# Altium integrated library TI Power Management Step-Down Regulator.IntLib: 531 symbols (part 2 of 32)
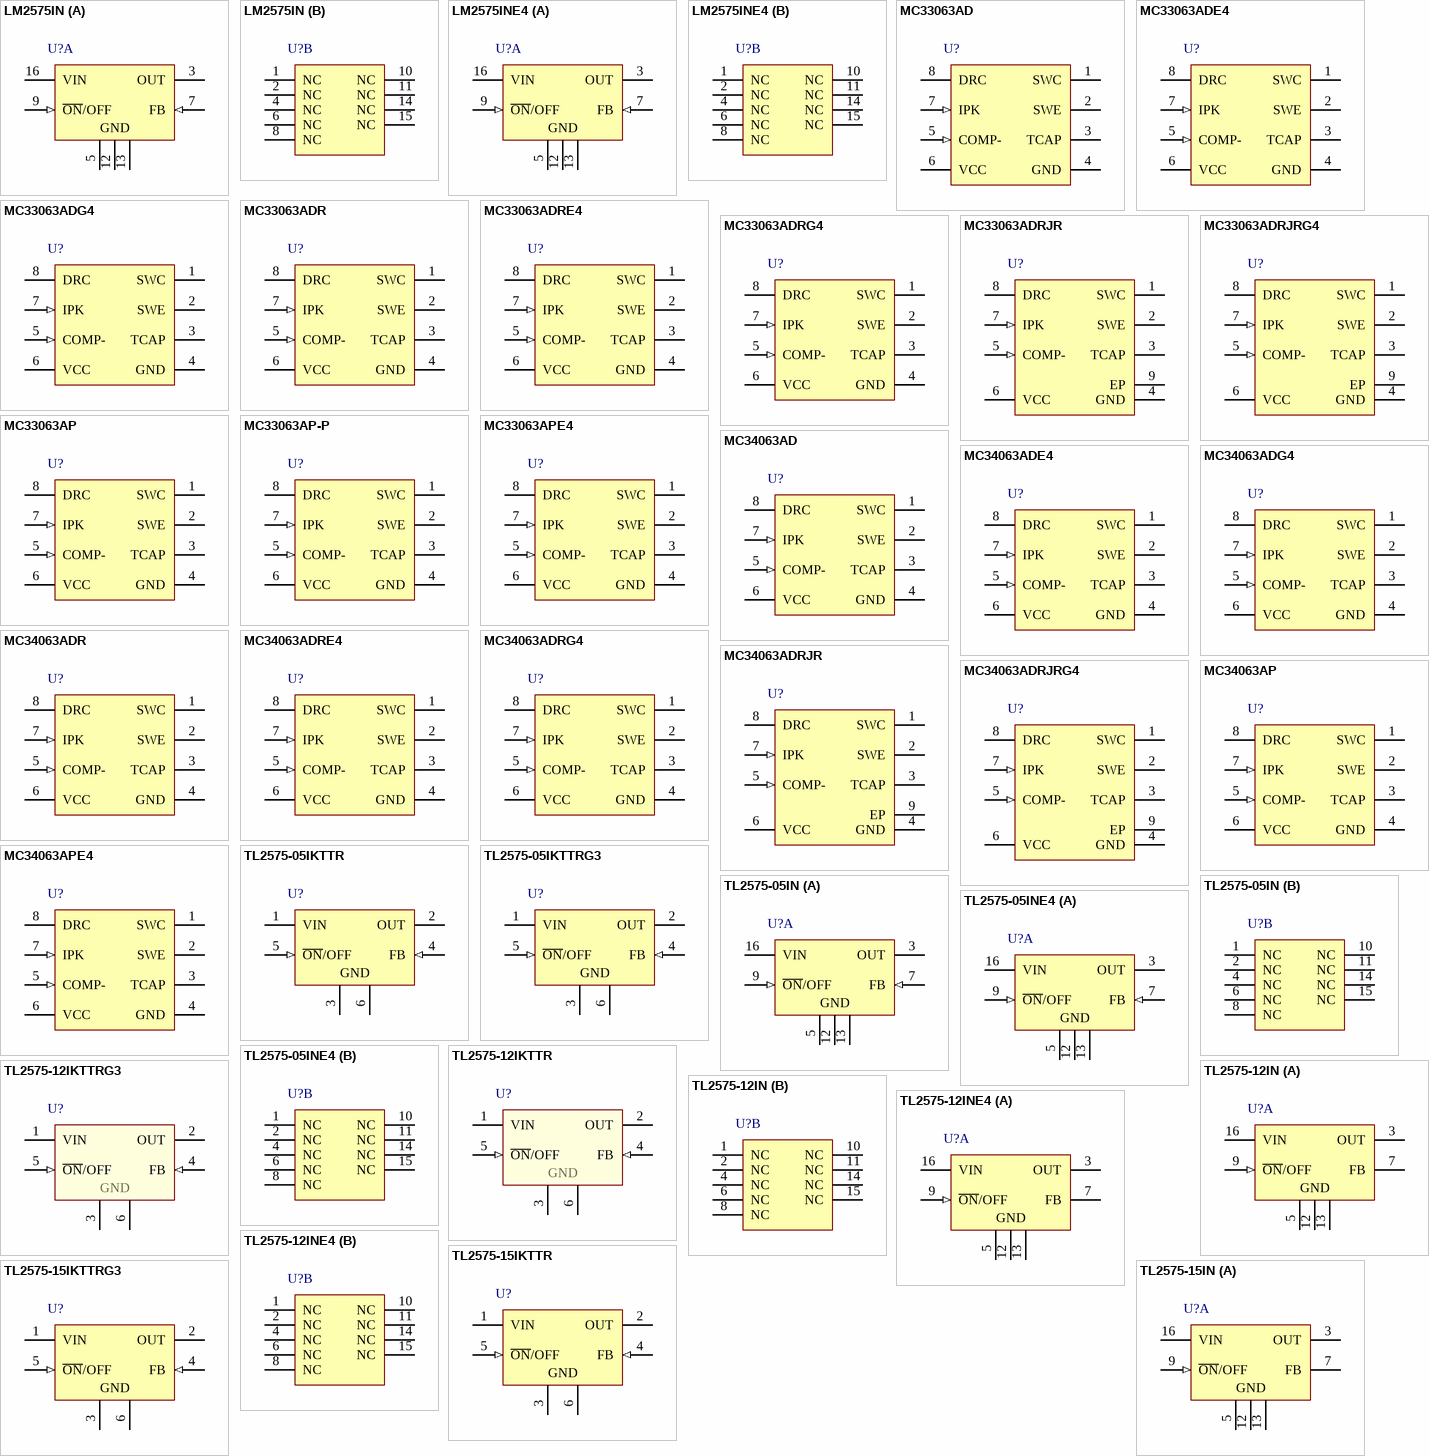
[diagram p19: symbols LM2575IN to TL2575-15IN]

## TL2575-15IKTTRG3
designator U?
Buck Step Down Regulator with 4.75 to 40 V Input and 15 V Output, -40 to 125 degC, 5-Pin DDPAK/TO-263 (KTT), Green (RoHS & no Sb/Br); PartNumber: TL2575-15IKTTRG3; Manufacturer: Texas Instruments; Duty Cycle(Max)(%): 98; Iout(Max)(A): 1; Iq(Typ)(mA): 5; Preset Vout(V): 15; Rating: Catalog; SubFamily: Step-Down Regulator; Switch Current Limit(Typ)(A): 2.8; Vin(Max)(V): 40; Vin(Min)(V): 4.75; DatasheetVersion: SLVS638B; PackageVersion: revF, Jul-2011; PackageReference: KTT5; PackageDescription: 6-Pin Plastic Flange-Mount Package 1.7 mm Pitch, 15.2 mm Lead Span; Supplier 1: Digi-Key; Supplier Part Number 1: TL2575-15IKTTRG3-ND; Supplier 2: Newark; Supplier Part Number 2: 62M0605; Supplier 3: Mouser; Supplier Part Number 3: 595-TL2575-15IKTTRG3; Eco-Plan: Green (RoHS & no Sb/Br); Regulated Outputs(#): 1; Topology: Buck; Vout(Max)(V): 15; Vout(Min)(V): 15; Mounting Technology: Surface Mount; Code_JEDEC: TO-263-AB; ComponentLink1Description: Datasheet; ComponentLink1URL: http://www.ti.com/general/docs/lit/getliterature.tsp?genericPartNumber=TL2575-15&fileType=pdf; ComponentLink2Description: URL Link1; ComponentLink2URL: Samples URL:http://www.ti.com/product/tl2575-15#samples
footprint KTT5_N (D2-PAK, 6-Leads, Body 8.9x10.2mm, Pitch 1.7mm, Lead Span 15.2mm, IPC Medium Density)
footprint KTT5_L (D2-PAK, 6-Leads, Body 8.9x10.2mm, Pitch 1.7mm, Lead Span 15.2mm, IPC High Density)
footprint KTT5_M (D2-PAK, 6-Leads, Body 8.9x10.2mm, Pitch 1.7mm, Lead Span 15.2mm, IPC Low Density)
pins: 1 VIN (power), 2 OUT (power), 3 GND (power), 4 FB (in), 5 ~{ON}/OFF (in), 6 GND (power)

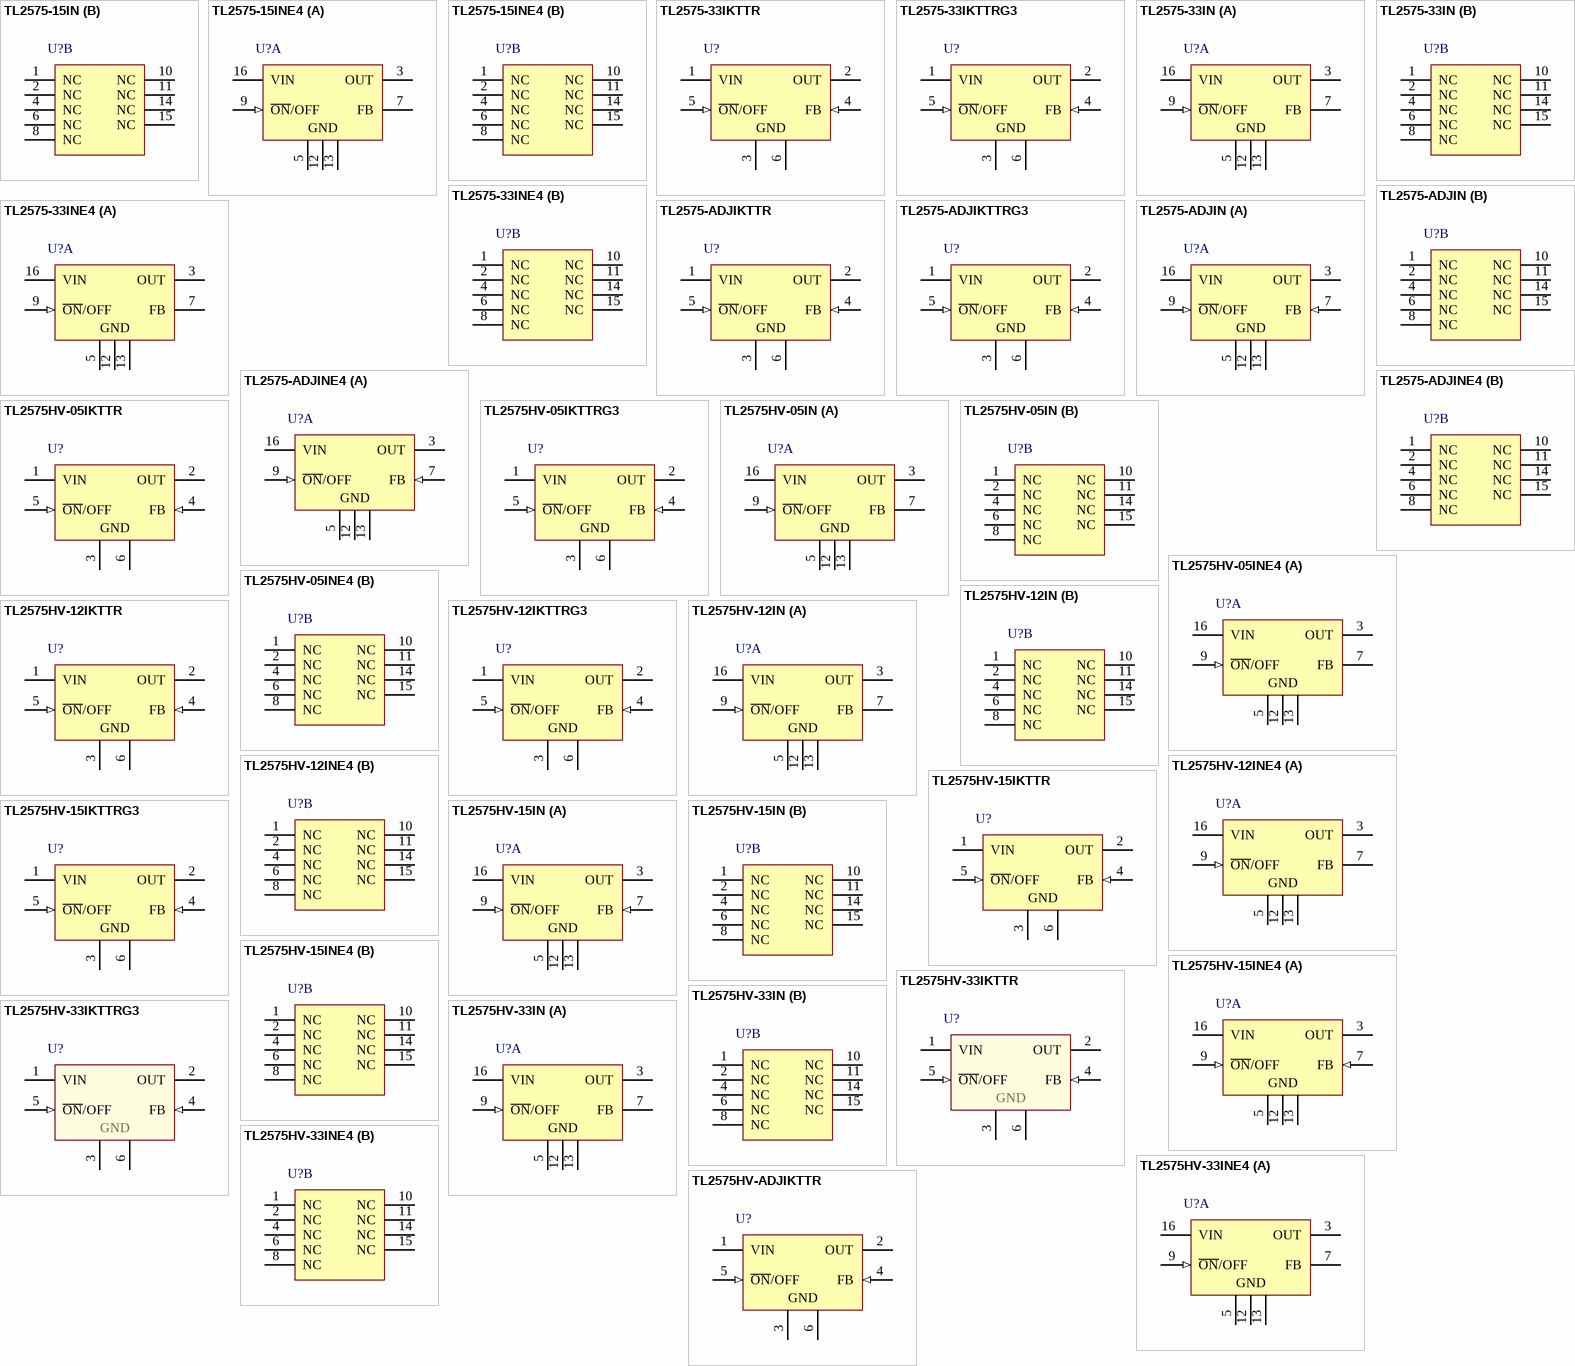
[diagram p1: symbols TL2575-15IN to TL2575HV-ADJIKTTR]

## TL2575-15IN
designator U?
Buck Step Down Regulator with 4.75 to 40 V Input and 15 V Output, -40 to 125 degC, 16-Pin PDIP (N), Pb-Free (RoHS); PartNumber: TL2575-15IN; Manufacturer: Texas Instruments; Duty Cycle(Max)(%): 98; Iout(Max)(A): 1; Iq(Typ)(mA): 5; Preset Vout(V): 15; Rating: Catalog; SubFamily: Step-Down Regulator; Switch Current Limit(Typ)(A): 2.8; Vin(Max)(V): 40; Vin(Min)(V): 4.75; DatasheetVersion: SLVS638B; PackageVersion: revE, Dec-2002; PackageReference: N16; PackageDescription: 16-Pin Plastic Dual-In-Line Package, Row Spacing 7.62 mm, Pitch 2.54 mm; Supplier 1: Digi-Key; Supplier Part Number 1: 296-21827-5-ND; Supplier 2: Newark; Supplier Part Number 2: 10M0607; Supplier 3: Mouser; Supplier Part Number 3: 595-TL2575-15IN; Eco-Plan: Pb-Free (RoHS); Regulated Outputs(#): 1; Topology: Buck; Vout(Max)(V): 15; Vout(Min)(V): 15; Mounting Technology: Through Hole; Code_JEDEC: MS-001*; ComponentLink1Description: Datasheet; ComponentLink1URL: http://www.ti.com/general/docs/lit/getliterature.tsp?genericPartNumber=TL2575-15&fileType=pdf; ComponentLink2Description: URL Link1; ComponentLink2URL: Samples URL:http://www.ti.com/product/tl2575-15#samples
footprint N16 (DIP, 16-Leads, Row Spacing 7.62mm, Pitch 2.54mm, Body 19.3x6.4mm)
part A pins: 3 OUT (power), 5 GND (power), 7 FB, 9 ~{ON}/OFF (in), 12 GND (power), 13 GND (power), 16 VIN (power)
part B pins: 1 NC, 2 NC, 4 NC, 6 NC, 8 NC, 10 NC, 11 NC, 14 NC, 15 NC

## TL2575-15INE4
designator U?
Buck Step Down Regulator with 4.75 to 40 V Input and 15 V Output, -40 to 125 degC, 16-Pin PDIP (N), Pb-Free (RoHS); PartNumber: TL2575-15INE4; Manufacturer: Texas Instruments; Duty Cycle(Max)(%): 98; Iout(Max)(A): 1; Iq(Typ)(mA): 5; Preset Vout(V): 15; Rating: Catalog; SubFamily: Step-Down Regulator; Switch Current Limit(Typ)(A): 2.8; Vin(Max)(V): 40; Vin(Min)(V): 4.75; DatasheetVersion: SLVS638B; PackageVersion: revE, Dec-2002; PackageReference: N16; PackageDescription: 16-Pin Plastic Dual-In-Line Package, Row Spacing 7.62 mm, Pitch 2.54 mm; Supplier 1: Digi-Key; Supplier Part Number 1: TL2575-15INE4-ND; Supplier 2: Newark; Supplier Part Number 2: 14M2354; Supplier 3: Mouser; Supplier Part Number 3: 595-TL2575-15INE4; Eco-Plan: Pb-Free (RoHS); Regulated Outputs(#): 1; Topology: Buck; Vout(Max)(V): 15; Vout(Min)(V): 15; Mounting Technology: Through Hole; Code_JEDEC: MS-001*; ComponentLink1Description: Datasheet; ComponentLink1URL: http://www.ti.com/general/docs/lit/getliterature.tsp?genericPartNumber=TL2575-15&fileType=pdf; ComponentLink2Description: URL Link1; ComponentLink2URL: Samples URL:http://www.ti.com/product/tps54611#samples
footprint N16 (DIP, 16-Leads, Row Spacing 7.62mm, Pitch 2.54mm, Body 19.3x6.4mm)
part A pins: 3 OUT (power), 5 GND (power), 7 FB, 9 ~{ON}/OFF (in), 12 GND (power), 13 GND (power), 16 VIN (power)
part B pins: 1 NC, 2 NC, 4 NC, 6 NC, 8 NC, 10 NC, 11 NC, 14 NC, 15 NC

## TL2575-33IKTTR
designator U?
Buck Step Down Regulator with 4.75 to 40 V Input and 3.3 V Output, -40 to 125 degC, 5-Pin DDPAK/TO-263 (KTT), Green (RoHS & no Sb/Br); PartNumber: TL2575-33IKTTR; Manufacturer: Texas Instruments; Duty Cycle(Max)(%): 98; Iout(Max)(A): 1; Iq(Typ)(mA): 5; Preset Vout(V): 3.3; Rating: Catalog; SubFamily: Step-Down Regulator; Switch Current Limit(Typ)(A): 2.8; Vin(Max)(V): 40; Vin(Min)(V): 4.75; DatasheetVersion: SLVS638B; PackageVersion: revF, Jul-2011; PackageReference: KTT5; PackageDescription: 6-Pin Plastic Flange-Mount Package 1.7 mm Pitch, 15.2 mm Lead Span; Supplier 1: Digi-Key; Supplier Part Number 1: 296-21828-2-ND; Supplier 2: Digi-Key; Supplier Part Number 2: 296-21828-1-ND; Supplier 3: Digi-Key; Supplier Part Number 3: 296-21828-6-ND; Supplier 4: Farnell; Supplier Part Number 4: 1755280RL; Supplier 5: Farnell; Supplier Part Number 5: 1755280; Supplier 6: Newark; Supplier Part Number 6: 27M1032; Supplier 7: Mouser; Supplier Part Number 7: 595-TL2575-33IKTTR; Eco-Plan: Green (RoHS & no Sb/Br); Regulated Outputs(#): 1; Topology: Buck; Vout(Max)(V): 3.3; Vout(Min)(V): 3.3; Mounting Technology: Surface Mount; Code_JEDEC: TO-263-AB; ComponentLink1Description: Datasheet; ComponentLink1URL: http://www.ti.com/general/docs/lit/getliterature.tsp?genericPartNumber=TL2575-33&fileType=pdf; ComponentLink2Description: URL Link1; ComponentLink2URL: Samples URL:http://www.ti.com/product/tl2575-33#samples
footprint KTT5_N (D2-PAK, 6-Leads, Body 8.9x10.2mm, Pitch 1.7mm, Lead Span 15.2mm, IPC Medium Density)
footprint KTT5_L (D2-PAK, 6-Leads, Body 8.9x10.2mm, Pitch 1.7mm, Lead Span 15.2mm, IPC High Density)
footprint KTT5_M (D2-PAK, 6-Leads, Body 8.9x10.2mm, Pitch 1.7mm, Lead Span 15.2mm, IPC Low Density)
pins: 1 VIN (power), 2 OUT (power), 3 GND (power), 4 FB (in), 5 ~{ON}/OFF (in), 6 GND (power)

## TL2575-33IKTTRG3
designator U?
Buck Step Down Regulator with 4.75 to 40 V Input and 3.3 V Output, -40 to 125 degC, 5-Pin DDPAK/TO-263 (KTT), Green (RoHS & no Sb/Br); PartNumber: TL2575-33IKTTRG3; Manufacturer: Texas Instruments; Duty Cycle(Max)(%): 98; Iout(Max)(A): 1; Iq(Typ)(mA): 5; Preset Vout(V): 3.3; Rating: Catalog; SubFamily: Step-Down Regulator; Switch Current Limit(Typ)(A): 2.8; Vin(Max)(V): 40; Vin(Min)(V): 4.75; DatasheetVersion: SLVS638B; PackageVersion: revF, Jul-2011; PackageReference: KTT5; PackageDescription: 6-Pin Plastic Flange-Mount Package 1.7 mm Pitch, 15.2 mm Lead Span; Supplier 1: Digi-Key; Supplier Part Number 1: TL2575-33IKTTRG3-ND; Supplier 2: Newark; Supplier Part Number 2: 62M0606; Supplier 3: Mouser; Supplier Part Number 3: 595-TL2575-33IKTTRG3; Eco-Plan: Green (RoHS & no Sb/Br); Regulated Outputs(#): 1; Topology: Buck; Vout(Max)(V): 3.3; Vout(Min)(V): 3.3; Mounting Technology: Surface Mount; Code_JEDEC: TO-263-AB; ComponentLink1Description: Datasheet; ComponentLink1URL: http://www.ti.com/general/docs/lit/getliterature.tsp?genericPartNumber=TL2575-33&fileType=pdf; ComponentLink2Description: URL Link1; ComponentLink2URL: Samples URL:http://www.ti.com/product/tl2575-33#samples
footprint KTT5_N (D2-PAK, 6-Leads, Body 8.9x10.2mm, Pitch 1.7mm, Lead Span 15.2mm, IPC Medium Density)
footprint KTT5_L (D2-PAK, 6-Leads, Body 8.9x10.2mm, Pitch 1.7mm, Lead Span 15.2mm, IPC High Density)
footprint KTT5_M (D2-PAK, 6-Leads, Body 8.9x10.2mm, Pitch 1.7mm, Lead Span 15.2mm, IPC Low Density)
pins: 1 VIN (power), 2 OUT (power), 3 GND (power), 4 FB (in), 5 ~{ON}/OFF (in), 6 GND (power)

## TL2575-33IN
designator U?
Buck Step Down Regulator with 4.75 to 40 V Input and 3.3 V Output, -40 to 125 degC, 16-Pin PDIP (N), Pb-Free (RoHS); PartNumber: TL2575-33IN; Manufacturer: Texas Instruments; Duty Cycle(Max)(%): 98; Iout(Max)(A): 1; Iq(Typ)(mA): 5; Preset Vout(V): 3.3; Rating: Catalog; SubFamily: Step-Down Regulator; Switch Current Limit(Typ)(A): 2.8; Vin(Max)(V): 40; Vin(Min)(V): 4.75; DatasheetVersion: SLVS638B; PackageVersion: revE, Dec-2002; PackageReference: N16; PackageDescription: 16-Pin Plastic Dual-In-Line Package, Row Spacing 7.62 mm, Pitch 2.54 mm; Supplier 1: Digi-Key; Supplier Part Number 1: 296-21095-5-ND; Supplier 2: Newark; Supplier Part Number 2: 75K1599; Supplier 3: Mouser; Supplier Part Number 3: 595-TL2575-33IN; Eco-Plan: Pb-Free (RoHS); Regulated Outputs(#): 1; Topology: Buck; Vout(Max)(V): 3.3; Vout(Min)(V): 3.3; Mounting Technology: Through Hole; Code_JEDEC: MS-001*; ComponentLink1Description: Datasheet; ComponentLink1URL: http://www.ti.com/general/docs/lit/getliterature.tsp?genericPartNumber=TL2575-33&fileType=pdf; ComponentLink2Description: URL Link1; ComponentLink2URL: Samples URL:http://www.ti.com/product/tl2575-33#samples
footprint N16 (DIP, 16-Leads, Row Spacing 7.62mm, Pitch 2.54mm, Body 19.3x6.4mm)
part A pins: 3 OUT (power), 5 GND (power), 7 FB, 9 ~{ON}/OFF (in), 12 GND (power), 13 GND (power), 16 VIN (power)
part B pins: 1 NC, 2 NC, 4 NC, 6 NC, 8 NC, 10 NC, 11 NC, 14 NC, 15 NC

## TL2575-33INE4
designator U?
Buck Step Down Regulator with 4.75 to 40 V Input and 3.3 V Output, -40 to 125 degC, 16-Pin PDIP (N), Green (RoHS & no Sb/Br); PartNumber: TL2575-33INE4; Manufacturer: Texas Instruments; Duty Cycle(Max)(%): 98; Iout(Max)(A): 1; Iq(Typ)(mA): 5; Preset Vout(V): 3.3; Rating: Catalog; SubFamily: Step-Down Regulator; Switch Current Limit(Typ)(A): 2.8; Vin(Max)(V): 40; Vin(Min)(V): 4.75; DatasheetVersion: SLVS638B; PackageVersion: revE, Dec-2002; PackageReference: N16; PackageDescription: 16-Pin Plastic Dual-In-Line Package, Row Spacing 7.62 mm, Pitch 2.54 mm; Supplier 1: Digi-Key; Supplier Part Number 1: TL2575-33INE4-ND; Supplier 2: Newark; Supplier Part Number 2: 53M3980; Supplier 3: Mouser; Supplier Part Number 3: 595-TL2575-33INE4; Eco-Plan: Green (RoHS & no Sb/Br); Regulated Outputs(#): 1; Topology: Buck; Vout(Max)(V): 3.3; Vout(Min)(V): 3.3; Mounting Technology: Through Hole; Code_JEDEC: MS-001*; ComponentLink1Description: Datasheet; ComponentLink1URL: http://www.ti.com/general/docs/lit/getliterature.tsp?genericPartNumber=TL2575-33&fileType=pdf; ComponentLink2Description: URL Link1; ComponentLink2URL: Samples URL:http://www.ti.com/product/tps54611#samples
footprint N16 (DIP, 16-Leads, Row Spacing 7.62mm, Pitch 2.54mm, Body 19.3x6.4mm)
part A pins: 3 OUT (power), 5 GND (power), 7 FB, 9 ~{ON}/OFF (in), 12 GND (power), 13 GND (power), 16 VIN (power)
part B pins: 1 NC, 2 NC, 4 NC, 6 NC, 8 NC, 10 NC, 11 NC, 14 NC, 15 NC

## TL2575-ADJIKTTR
designator U?
Buck Step Down Regulator with 4.75 to 40 V Input and 1.23 to 37 V Output, -40 to 125 degC, 5-Pin DDPAK/TO-263 (KTT), Green (RoHS & no Sb/Br); PartNumber: TL2575-ADJIKTTR; Manufacturer: Texas Instruments; Duty Cycle(Max)(%): 98; Iout(Max)(A): 1; Iq(Typ)(mA): 5; Rating: Catalog; SubFamily: Step-Down Regulator; Switch Current Limit(Typ)(A): 2.8; Vin(Max)(V): 40; Vin(Min)(V): 4.75; Vout(Max)(V): 37; Vout(Min)(V): 1.23; DatasheetVersion: SLVS638B; PackageVersion: revF, Jul-2011; PackageReference: KTT5; PackageDescription: 6-Pin Plastic Flange-Mount Package 1.7 mm Pitch, 15.2 mm Lead Span; Supplier 1: Digi-Key; Supplier Part Number 1: 296-21830-2-ND; Supplier 2: Digi-Key; Supplier Part Number 2: 296-21830-1-ND; Supplier 3: Digi-Key; Supplier Part Number 3: 296-21830-6-ND; Supplier 4: Farnell; Supplier Part Number 4: 1755268; Supplier 5: Farnell; Supplier Part Number 5: 1755268RL; Supplier 6: Newark; Supplier Part Number 6: 34R9113; Supplier 7: Mouser; Supplier Part Number 7: 595-TL2575-ADJIKTTR; Eco-Plan: Green (RoHS & no Sb/Br); Regulated Outputs(#): 1; Topology: Buck; Mounting Technology: Surface Mount; Code_JEDEC: TO-263-AB; ComponentLink1Description: Datasheet; ComponentLink1URL: http://www.ti.com/general/docs/lit/getliterature.tsp?genericPartNumber=TL2575-ADJ&fileType=pdf; ComponentLink2Description: URL Link1; ComponentLink2URL: Samples URL:http://www.ti.com/product/tl2575-adj#samples
footprint KTT5_N (D2-PAK, 6-Leads, Body 8.9x10.2mm, Pitch 1.7mm, Lead Span 15.2mm, IPC Medium Density)
footprint KTT5_L (D2-PAK, 6-Leads, Body 8.9x10.2mm, Pitch 1.7mm, Lead Span 15.2mm, IPC High Density)
footprint KTT5_M (D2-PAK, 6-Leads, Body 8.9x10.2mm, Pitch 1.7mm, Lead Span 15.2mm, IPC Low Density)
pins: 1 VIN (power), 2 OUT (power), 3 GND (power), 4 FB (in), 5 ~{ON}/OFF (in), 6 GND (power)

## TL2575-ADJIKTTRG3
designator U?
Buck Step Down Regulator with 4.75 to 40 V Input and 1.23 to 37 V Output, -40 to 125 degC, 5-Pin DDPAK/TO-263 (KTT), Green (RoHS & no Sb/Br); PartNumber: TL2575-ADJIKTTRG3; Manufacturer: Texas Instruments; Duty Cycle(Max)(%): 98; Iout(Max)(A): 1; Iq(Typ)(mA): 5; Rating: Catalog; SubFamily: Step-Down Regulator; Switch Current Limit(Typ)(A): 2.8; Vin(Max)(V): 40; Vin(Min)(V): 4.75; Vout(Max)(V): 37; Vout(Min)(V): 1.23; DatasheetVersion: SLVS638B; PackageVersion: revF, Jul-2011; PackageReference: KTT5; PackageDescription: 6-Pin Plastic Flange-Mount Package 1.7 mm Pitch, 15.2 mm Lead Span; Supplier 1: Digi-Key; Supplier Part Number 1: TL2575-ADJIKTTRG3-ND; Supplier 2: Mouser; Supplier Part Number 2: 595-TL2575ADJIKTTRG3; Eco-Plan: Green (RoHS & no Sb/Br); Regulated Outputs(#): 1; Topology: Buck; Mounting Technology: Surface Mount; Code_JEDEC: TO-263-AB; ComponentLink1Description: Datasheet; ComponentLink1URL: http://www.ti.com/general/docs/lit/getliterature.tsp?genericPartNumber=TL2575-ADJ&fileType=pdf; ComponentLink2Description: URL Link1; ComponentLink2URL: Samples URL:http://www.ti.com/product/tl2575-adj#samples
footprint KTT5_N (D2-PAK, 6-Leads, Body 8.9x10.2mm, Pitch 1.7mm, Lead Span 15.2mm, IPC Medium Density)
footprint KTT5_L (D2-PAK, 6-Leads, Body 8.9x10.2mm, Pitch 1.7mm, Lead Span 15.2mm, IPC High Density)
footprint KTT5_M (D2-PAK, 6-Leads, Body 8.9x10.2mm, Pitch 1.7mm, Lead Span 15.2mm, IPC Low Density)
pins: 1 VIN (power), 2 OUT (power), 3 GND (power), 4 FB (in), 5 ~{ON}/OFF (in), 6 GND (power)

## TL2575-ADJIN
designator U?
Buck Step Down Regulator with 4.75 to 40 V Input and 1.237 V Output, -40 to 125 degC, 16-Pin PDIP (N), Pb-Free (RoHS); PartNumber: TL2575-ADJIN; Manufacturer: Texas Instruments; Duty Cycle(Max)(%): 98; Iout(Max)(A): 1; Iq(Typ)(mA): 5; Rating: Catalog; SubFamily: Step-Down Regulator; Switch Current Limit(Typ)(A): 2.8; Vin(Max)(V): 40; Vin(Min)(V): 4.75; Vout(Max)(V): 37; Vout(Min)(V): 1.23; DatasheetVersion: SLVS638B; PackageVersion: revE, Dec-2002; PackageReference: N16; PackageDescription: 16-Pin Plastic Dual-In-Line Package, Row Spacing 7.62 mm, Pitch 2.54 mm; Supplier 1: Digi-Key; Supplier Part Number 1: 296-21832-5-ND; Supplier 2: Newark; Supplier Part Number 2: 10M0606; Supplier 3: Mouser; Supplier Part Number 3: 595-TL2575-ADJIN; Eco-Plan: Pb-Free (RoHS); Regulated Outputs(#): 1; Topology: Buck; Mounting Technology: Through Hole; Code_JEDEC: MS-001*; ComponentLink1Description: Datasheet; ComponentLink1URL: http://www.ti.com/general/docs/lit/getliterature.tsp?genericPartNumber=TL2575-ADJ&fileType=pdf; ComponentLink2Description: URL Link1; ComponentLink2URL: Samples URL:http://www.ti.com/product/tl2575-adj#samples
footprint N16 (DIP, 16-Leads, Row Spacing 7.62mm, Pitch 2.54mm, Body 19.3x6.4mm)
part A pins: 3 OUT (power), 5 GND (power), 7 FB (in), 9 ~{ON}/OFF (in), 12 GND (power), 13 GND (power), 16 VIN (power)
part B pins: 1 NC, 2 NC, 4 NC, 6 NC, 8 NC, 10 NC, 11 NC, 14 NC, 15 NC

## TL2575-ADJINE4
designator U?
Buck Step Down Regulator with 4.75 to 40 V Input and 1.237 V Output, -40 to 125 degC, 16-Pin PDIP (N), Pb-Free (RoHS); PartNumber: TL2575-ADJINE4; Manufacturer: Texas Instruments; Duty Cycle(Max)(%): 98; Iout(Max)(A): 1; Iq(Typ)(mA): 5; Rating: Catalog; SubFamily: Step-Down Regulator; Switch Current Limit(Typ)(A): 2.8; Vin(Max)(V): 40; Vin(Min)(V): 4.75; Vout(Max)(V): 37; Vout(Min)(V): 1.23; DatasheetVersion: SLVS638B; PackageVersion: revE, Dec-2002; PackageReference: N16; PackageDescription: 16-Pin Plastic Dual-In-Line Package, Row Spacing 7.62 mm, Pitch 2.54 mm; Supplier 1: Digi-Key; Supplier Part Number 1: TL2575-ADJINE4-ND; Supplier 2: Newark; Supplier Part Number 2: 14M2351; Supplier 3: Mouser; Supplier Part Number 3: 595-TL2575-ADJINE4; Eco-Plan: Pb-Free (RoHS); Regulated Outputs(#): 1; Topology: Buck; Mounting Technology: Through Hole; Code_JEDEC: MS-001*; ComponentLink1Description: Datasheet; ComponentLink1URL: http://www.ti.com/general/docs/lit/getliterature.tsp?genericPartNumber=TL2575-ADJ&fileType=pdf; ComponentLink2Description: URL Link1; ComponentLink2URL: Samples URL:http://www.ti.com/product/tl2575-adj#samples
footprint N16 (DIP, 16-Leads, Row Spacing 7.62mm, Pitch 2.54mm, Body 19.3x6.4mm)
part A pins: 3 OUT (power), 5 GND (power), 7 FB (in), 9 ~{ON}/OFF (in), 12 GND (power), 13 GND (power), 16 VIN (power)
part B pins: 1 NC, 2 NC, 4 NC, 6 NC, 8 NC, 10 NC, 11 NC, 14 NC, 15 NC

## TL2575HV-05IKTTR
designator U?
Buck Step Down Regulator with 4.75 to 60 V Input and 5 V Output, -40 to 125 degC, 5-Pin DDPAK/TO-263 (KTT), Green (RoHS & no Sb/Br); PartNumber: TL2575HV-05IKTTR; Manufacturer: Texas Instruments; Duty Cycle(Max)(%): 98; Iout(Max)(A): 1; Iq(Typ)(mA): 5; Rating: Catalog; SubFamily: Step-Down Regulator; Switch Current Limit(Typ)(A): 2.8; Vin(Max)(V): 60; Vin(Min)(V): 4.75; DatasheetVersion: SLVS638B; PackageVersion: revF, Jul-2011; PackageReference: KTT5; PackageDescription: 6-Pin Plastic Flange-Mount Package 1.7 mm Pitch, 15.2 mm Lead Span; Supplier 1: Digi-Key; Supplier Part Number 1: 296-21833-2-ND; Supplier 2: Digi-Key; Supplier Part Number 2: 296-21833-1-ND; Supplier 3: Digi-Key; Supplier Part Number 3: 296-21833-6-ND; Supplier 4: Farnell; Supplier Part Number 4: 1755270RL; Supplier 5: Farnell; Supplier Part Number 5: 1755270; Supplier 6: Newark; Supplier Part Number 6: 27M1038; Supplier 7: Mouser; Supplier Part Number 7: 595-TL2575HV-05IKTTR; Eco-Plan: Green (RoHS & no Sb/Br); Preset Vout(V): 5; Regulated Outputs(#): 1; Topology: Buck; Vout(Max)(V): 5; Vout(Min)(V): 5; Mounting Technology: Surface Mount; Code_JEDEC: TO-263-AB; ComponentLink1Description: Datasheet; ComponentLink1URL: http://www.ti.com/general/docs/lit/getliterature.tsp?genericPartNumber=TL2575HV-05&fileType=pdf; ComponentLink2Description: URL Link1; ComponentLink2URL: Samples URL:http://www.ti.com/product/tl2575hv-05#samples
footprint KTT5_N (D2-PAK, 6-Leads, Body 8.9x10.2mm, Pitch 1.7mm, Lead Span 15.2mm, IPC Medium Density)
footprint KTT5_L (D2-PAK, 6-Leads, Body 8.9x10.2mm, Pitch 1.7mm, Lead Span 15.2mm, IPC High Density)
footprint KTT5_M (D2-PAK, 6-Leads, Body 8.9x10.2mm, Pitch 1.7mm, Lead Span 15.2mm, IPC Low Density)
pins: 1 VIN (power), 2 OUT (power), 3 GND (power), 4 FB (in), 5 ~{ON}/OFF (in), 6 GND (power)

## TL2575HV-05IKTTRG3
designator U?
Buck Step Down Regulator with 4.75 to 60 V Input and 5 V Output, -40 to 125 degC, 5-Pin DDPAK/TO-263 (KTT), Green (RoHS & no Sb/Br); PartNumber: TL2575HV-05IKTTRG3; Manufacturer: Texas Instruments; Duty Cycle(Max)(%): 98; Iout(Max)(A): 1; Iq(Typ)(mA): 5; Rating: Catalog; SubFamily: Step-Down Regulator; Switch Current Limit(Typ)(A): 2.8; Vin(Max)(V): 60; Vin(Min)(V): 4.75; DatasheetVersion: SLVS638B; PackageVersion: revF, Jul-2011; PackageReference: KTT5; PackageDescription: 6-Pin Plastic Flange-Mount Package 1.7 mm Pitch, 15.2 mm Lead Span; Supplier 1: Digi-Key; Supplier Part Number 1: TL2575HV-05IKTTRG3-ND; Supplier 2: Newark; Supplier Part Number 2: 62M0607; Supplier 3: Mouser; Supplier Part Number 3: 595-T2575HV05IKTTRG3; Eco-Plan: Green (RoHS & no Sb/Br); Preset Vout(V): 5; Regulated Outputs(#): 1; Topology: Buck; Vout(Max)(V): 5; Vout(Min)(V): 5; Mounting Technology: Surface Mount; Code_JEDEC: TO-263-AB; ComponentLink1Description: Datasheet; ComponentLink1URL: http://www.ti.com/general/docs/lit/getliterature.tsp?genericPartNumber=TL2575HV-05&fileType=pdf; ComponentLink2Description: URL Link1; ComponentLink2URL: Samples URL:http://www.ti.com/product/tl2575hv-05#samples
footprint KTT5_N (D2-PAK, 6-Leads, Body 8.9x10.2mm, Pitch 1.7mm, Lead Span 15.2mm, IPC Medium Density)
footprint KTT5_L (D2-PAK, 6-Leads, Body 8.9x10.2mm, Pitch 1.7mm, Lead Span 15.2mm, IPC High Density)
footprint KTT5_M (D2-PAK, 6-Leads, Body 8.9x10.2mm, Pitch 1.7mm, Lead Span 15.2mm, IPC Low Density)
pins: 1 VIN (power), 2 OUT (power), 3 GND (power), 4 FB (in), 5 ~{ON}/OFF (in), 6 GND (power)

## TL2575HV-05IN
designator U?
Buck Step Down Regulator with 4.75 to 60 V Input and 5 V Output, -40 to 125 degC, 16-Pin PDIP (N), Pb-Free (RoHS); PartNumber: TL2575HV-05IN; Manufacturer: Texas Instruments; Duty Cycle(Max)(%): 98; Iout(Max)(A): 1; Iq(Typ)(mA): 5; Rating: Catalog; SubFamily: Step-Down Regulator; Switch Current Limit(Typ)(A): 2.8; Vin(Max)(V): 60; Vin(Min)(V): 4.75; DatasheetVersion: SLVS638B; PackageVersion: revE, Dec-2002; PackageReference: N16; PackageDescription: 16-Pin Plastic Dual-In-Line Package, Row Spacing 7.62 mm, Pitch 2.54 mm; Supplier 1: Digi-Key; Supplier Part Number 1: 296-21835-5-ND; Supplier 2: Newark; Supplier Part Number 2: 27M1040; Supplier 3: Mouser; Supplier Part Number 3: 595-TL2575HV-05IN; Eco-Plan: Pb-Free (RoHS); Preset Vout(V): 5; Regulated Outputs(#): 1; Topology: Buck; Vout(Max)(V): 5; Vout(Min)(V): 5; Mounting Technology: Through Hole; Code_JEDEC: MS-001*; ComponentLink1Description: Datasheet; ComponentLink1URL: http://www.ti.com/general/docs/lit/getliterature.tsp?genericPartNumber=TL2575HV-05&fileType=pdf; ComponentLink2Description: URL Link1; ComponentLink2URL: Samples URL:http://www.ti.com/product/tl2575hv-05#samples
footprint N16 (DIP, 16-Leads, Row Spacing 7.62mm, Pitch 2.54mm, Body 19.3x6.4mm)
part A pins: 3 OUT (power), 5 GND (power), 7 FB, 9 ~{ON}/OFF (in), 12 GND (power), 13 GND (power), 16 VIN (power)
part B pins: 1 NC, 2 NC, 4 NC, 6 NC, 8 NC, 10 NC, 11 NC, 14 NC, 15 NC

## TL2575HV-05INE4
designator U?
Buck Step Down Regulator with 4.75 to 60 V Input and 5 V Output, -40 to 125 degC, 16-Pin PDIP (N), Pb-Free (RoHS); PartNumber: TL2575HV-05INE4; Manufacturer: Texas Instruments; Duty Cycle(Max)(%): 98; Iout(Max)(A): 1; Iq(Typ)(mA): 5; Rating: Catalog; SubFamily: Step-Down Regulator; Switch Current Limit(Typ)(A): 2.8; Vin(Max)(V): 60; Vin(Min)(V): 4.75; DatasheetVersion: SLVS638B; PackageVersion: revE, Dec-2002; PackageReference: N16; PackageDescription: 16-Pin Plastic Dual-In-Line Package, Row Spacing 7.62 mm, Pitch 2.54 mm; Supplier 1: Digi-Key; Supplier Part Number 1: TL2575HV-05INE4-ND; Supplier 2: Newark; Supplier Part Number 2: 27M1041; Supplier 3: Mouser; Supplier Part Number 3: 595-TL2575HV-05INE4; Eco-Plan: Pb-Free (RoHS); Preset Vout(V): 5; Regulated Outputs(#): 1; Topology: Buck; Vout(Max)(V): 5; Vout(Min)(V): 5; Mounting Technology: Through Hole; Code_JEDEC: MS-001*; ComponentLink1Description: Datasheet; ComponentLink1URL: http://www.ti.com/general/docs/lit/getliterature.tsp?genericPartNumber=TL2575HV-05&fileType=pdf; ComponentLink2Description: URL Link1; ComponentLink2URL: Samples URL:http://www.ti.com/product/tps54611#samples
footprint N16 (DIP, 16-Leads, Row Spacing 7.62mm, Pitch 2.54mm, Body 19.3x6.4mm)
part A pins: 3 OUT (power), 5 GND (power), 7 FB, 9 ~{ON}/OFF (in), 12 GND (power), 13 GND (power), 16 VIN (power)
part B pins: 1 NC, 2 NC, 4 NC, 6 NC, 8 NC, 10 NC, 11 NC, 14 NC, 15 NC

## TL2575HV-12IKTTR
designator U?
Buck Step Down Regulator with 4.75 to 60 V Input and 12 V Output, -40 to 125 degC, 5-Pin DDPAK/TO-263 (KTT), Green (RoHS & no Sb/Br); PartNumber: TL2575HV-12IKTTR; Manufacturer: Texas Instruments; Duty Cycle(Max)(%): 98; Iout(Max)(A): 1; Iq(Typ)(mA): 5; Preset Vout(V): 12; Rating: Catalog; SubFamily: Step-Down Regulator; Switch Current Limit(Typ)(A): 2.8; Vin(Max)(V): 60; Vin(Min)(V): 4.75; DatasheetVersion: SLVS638B; PackageVersion: revF, Jul-2011; PackageReference: KTT5; PackageDescription: 6-Pin Plastic Flange-Mount Package 1.7 mm Pitch, 15.2 mm Lead Span; Supplier 1: Digi-Key; Supplier Part Number 1: 296-21499-2-ND; Supplier 2: Digi-Key; Supplier Part Number 2: 296-21499-1-ND; Supplier 3: Digi-Key; Supplier Part Number 3: 296-21499-6-ND; Supplier 4: Newark; Supplier Part Number 4: 28M7793; Supplier 5: Mouser; Supplier Part Number 5: 595-TL2575HV-12IKTTR; Eco-Plan: Green (RoHS & no Sb/Br); Regulated Outputs(#): 1; Topology: Buck; Vout(Max)(V): 12; Vout(Min)(V): 12; Mounting Technology: Surface Mount; Code_JEDEC: TO-263-AB; ComponentLink1Description: Datasheet; ComponentLink1URL: http://www.ti.com/general/docs/lit/getliterature.tsp?genericPartNumber=TL2575HV-12&fileType=pdf; ComponentLink2Description: URL Link1; ComponentLink2URL: Samples URL:http://www.ti.com/product/tl2575hv-12#samples
footprint KTT5_N (D2-PAK, 6-Leads, Body 8.9x10.2mm, Pitch 1.7mm, Lead Span 15.2mm, IPC Medium Density)
footprint KTT5_L (D2-PAK, 6-Leads, Body 8.9x10.2mm, Pitch 1.7mm, Lead Span 15.2mm, IPC High Density)
footprint KTT5_M (D2-PAK, 6-Leads, Body 8.9x10.2mm, Pitch 1.7mm, Lead Span 15.2mm, IPC Low Density)
pins: 1 VIN (power), 2 OUT (power), 3 GND (power), 4 FB (in), 5 ~{ON}/OFF (in), 6 GND (power)

## TL2575HV-12IKTTRG3
designator U?
Buck Step Down Regulator with 4.75 to 60 V Input and 12 V Output, -40 to 125 degC, 5-Pin DDPAK/TO-263 (KTT), Green (RoHS & no Sb/Br); PartNumber: TL2575HV-12IKTTRG3; Manufacturer: Texas Instruments; Duty Cycle(Max)(%): 98; Iout(Max)(A): 1; Iq(Typ)(mA): 5; Preset Vout(V): 12; Rating: Catalog; SubFamily: Step-Down Regulator; Switch Current Limit(Typ)(A): 2.8; Vin(Max)(V): 60; Vin(Min)(V): 4.75; DatasheetVersion: SLVS638B; PackageVersion: revF, Jul-2011; PackageReference: KTT5; PackageDescription: 6-Pin Plastic Flange-Mount Package 1.7 mm Pitch, 15.2 mm Lead Span; Supplier 1: Digi-Key; Supplier Part Number 1: TL2575HV-12IKTTRG3-ND; Supplier 2: Newark; Supplier Part Number 2: 62M0608; Supplier 3: Mouser; Supplier Part Number 3: 595-T2575HV12IKTTRG3; Eco-Plan: Green (RoHS & no Sb/Br); Regulated Outputs(#): 1; Topology: Buck; Vout(Max)(V): 12; Vout(Min)(V): 12; Mounting Technology: Surface Mount; Code_JEDEC: TO-263-AB; ComponentLink1Description: Datasheet; ComponentLink1URL: http://www.ti.com/general/docs/lit/getliterature.tsp?genericPartNumber=TL2575HV-12&fileType=pdf; ComponentLink2Description: URL Link1; ComponentLink2URL: Samples URL:http://www.ti.com/product/tl2575hv-12#samples
footprint KTT5_N (D2-PAK, 6-Leads, Body 8.9x10.2mm, Pitch 1.7mm, Lead Span 15.2mm, IPC Medium Density)
footprint KTT5_L (D2-PAK, 6-Leads, Body 8.9x10.2mm, Pitch 1.7mm, Lead Span 15.2mm, IPC High Density)
footprint KTT5_M (D2-PAK, 6-Leads, Body 8.9x10.2mm, Pitch 1.7mm, Lead Span 15.2mm, IPC Low Density)
pins: 1 VIN (power), 2 OUT (power), 3 GND (power), 4 FB (in), 5 ~{ON}/OFF (in), 6 GND (power)

## TL2575HV-12IN
designator U?
Buck Step Down Regulator with 4.75 to 60 V Input and 12 V Output, -40 to 125 degC, 16-Pin PDIP (N), Pb-Free (RoHS); PartNumber: TL2575HV-12IN; Manufacturer: Texas Instruments; Duty Cycle(Max)(%): 98; Iout(Max)(A): 1; Iq(Typ)(mA): 5; Preset Vout(V): 12; Rating: Catalog; SubFamily: Step-Down Regulator; Switch Current Limit(Typ)(A): 2.8; Vin(Max)(V): 60; Vin(Min)(V): 4.75; DatasheetVersion: SLVS638B; PackageVersion: revE, Dec-2002; PackageReference: N16; PackageDescription: 16-Pin Plastic Dual-In-Line Package, Row Spacing 7.62 mm, Pitch 2.54 mm; Supplier 1: Digi-Key; Supplier Part Number 1: 296-21836-5-ND; Supplier 2: Newark; Supplier Part Number 2: 27M1042; Supplier 3: Mouser; Supplier Part Number 3: 595-TL2575HV-12IN; Eco-Plan: Pb-Free (RoHS); Regulated Outputs(#): 1; Topology: Buck; Vout(Max)(V): 12; Vout(Min)(V): 12; Mounting Technology: Through Hole; Code_JEDEC: MS-001*; ComponentLink1Description: Datasheet; ComponentLink1URL: http://www.ti.com/general/docs/lit/getliterature.tsp?genericPartNumber=TL2575HV-12&fileType=pdf; ComponentLink2Description: URL Link1; ComponentLink2URL: Samples URL:http://www.ti.com/product/tl2575hv-12#samples
footprint N16 (DIP, 16-Leads, Row Spacing 7.62mm, Pitch 2.54mm, Body 19.3x6.4mm)
part A pins: 3 OUT (power), 5 GND (power), 7 FB, 9 ~{ON}/OFF (in), 12 GND (power), 13 GND (power), 16 VIN (power)
part B pins: 1 NC, 2 NC, 4 NC, 6 NC, 8 NC, 10 NC, 11 NC, 14 NC, 15 NC

## TL2575HV-12INE4
designator U?
Buck Step Down Regulator with 4.75 to 60 V Input and 12 V Output, -40 to 125 degC, 16-Pin PDIP (N), Pb-Free (RoHS); PartNumber: TL2575HV-12INE4; Manufacturer: Texas Instruments; Duty Cycle(Max)(%): 98; Iout(Max)(A): 1; Iq(Typ)(mA): 5; Preset Vout(V): 12; Rating: Catalog; SubFamily: Step-Down Regulator; Switch Current Limit(Typ)(A): 2.8; Vin(Max)(V): 60; Vin(Min)(V): 4.75; DatasheetVersion: SLVS638B; PackageVersion: revE, Dec-2002; PackageReference: N16; PackageDescription: 16-Pin Plastic Dual-In-Line Package, Row Spacing 7.62 mm, Pitch 2.54 mm; Supplier 1: Digi-Key; Supplier Part Number 1: TL2575HV-12INE4-ND; Supplier 2: Newark; Supplier Part Number 2: 27M1043; Supplier 3: Mouser; Supplier Part Number 3: 595-TL2575HV-12INE4; Eco-Plan: Pb-Free (RoHS); Regulated Outputs(#): 1; Topology: Buck; Vout(Max)(V): 12; Vout(Min)(V): 12; Mounting Technology: Through Hole; Code_JEDEC: MS-001*; ComponentLink1Description: Datasheet; ComponentLink1URL: http://www.ti.com/general/docs/lit/getliterature.tsp?genericPartNumber=TL2575HV-12&fileType=pdf; ComponentLink2Description: URL Link1; ComponentLink2URL: Samples URL:http://www.ti.com/product/tps54611#samples
footprint N16 (DIP, 16-Leads, Row Spacing 7.62mm, Pitch 2.54mm, Body 19.3x6.4mm)
part A pins: 3 OUT (power), 5 GND (power), 7 FB, 9 ~{ON}/OFF (in), 12 GND (power), 13 GND (power), 16 VIN (power)
part B pins: 1 NC, 2 NC, 4 NC, 6 NC, 8 NC, 10 NC, 11 NC, 14 NC, 15 NC

## TL2575HV-15IKTTR
designator U?
Buck Step Down Regulator with 4.75 to 60 V Input and 15 V Output, -40 to 125 degC, 5-Pin DDPAK/TO-263 (KTT), Green (RoHS & no Sb/Br); PartNumber: TL2575HV-15IKTTR; Manufacturer: Texas Instruments; Duty Cycle(Max)(%): 98; Iout(Max)(A): 1; Iq(Typ)(mA): 5; Preset Vout(V): 15; Rating: Catalog; SubFamily: Step-Down Regulator; Switch Current Limit(Typ)(A): 2.8; Vin(Max)(V): 60; Vin(Min)(V): 4.75; DatasheetVersion: SLVS638B; PackageVersion: revF, Jul-2011; PackageReference: KTT5; PackageDescription: 6-Pin Plastic Flange-Mount Package 1.7 mm Pitch, 15.2 mm Lead Span; Supplier 1: Digi-Key; Supplier Part Number 1: 296-21501-2-ND; Supplier 2: Digi-Key; Supplier Part Number 2: 296-21501-1-ND; Supplier 3: Digi-Key; Supplier Part Number 3: 296-21501-6-ND; Supplier 4: Newark; Supplier Part Number 4: 28M7795; Supplier 5: Mouser; Supplier Part Number 5: 595-TL2575HV-15IKTTR; Eco-Plan: Green (RoHS & no Sb/Br); Regulated Outputs(#): 1; Topology: Buck; Vout(Max)(V): 15; Vout(Min)(V): 15; Mounting Technology: Surface Mount; Code_JEDEC: TO-263-AB; ComponentLink1Description: Datasheet; ComponentLink1URL: http://www.ti.com/general/docs/lit/getliterature.tsp?genericPartNumber=TL2575HV-15&fileType=pdf; ComponentLink2Description: URL Link1; ComponentLink2URL: Samples URL:http://www.ti.com/product/tl2575hv-15#samples
footprint KTT5_N (D2-PAK, 6-Leads, Body 8.9x10.2mm, Pitch 1.7mm, Lead Span 15.2mm, IPC Medium Density)
footprint KTT5_L (D2-PAK, 6-Leads, Body 8.9x10.2mm, Pitch 1.7mm, Lead Span 15.2mm, IPC High Density)
footprint KTT5_M (D2-PAK, 6-Leads, Body 8.9x10.2mm, Pitch 1.7mm, Lead Span 15.2mm, IPC Low Density)
pins: 1 VIN (power), 2 OUT (power), 3 GND (power), 4 FB (in), 5 ~{ON}/OFF (in), 6 GND (power)

## TL2575HV-15IKTTRG3
designator U?
Buck Step Down Regulator with 4.75 to 60 V Input and 15 V Output, -40 to 125 degC, 5-Pin DDPAK/TO-263 (KTT), Green (RoHS & no Sb/Br); PartNumber: TL2575HV-15IKTTRG3; Manufacturer: Texas Instruments; Duty Cycle(Max)(%): 98; Iout(Max)(A): 1; Iq(Typ)(mA): 5; Preset Vout(V): 15; Rating: Catalog; SubFamily: Step-Down Regulator; Switch Current Limit(Typ)(A): 2.8; Vin(Max)(V): 60; Vin(Min)(V): 4.75; DatasheetVersion: SLVS638B; PackageVersion: revF, Jul-2011; PackageReference: KTT5; PackageDescription: 6-Pin Plastic Flange-Mount Package 1.7 mm Pitch, 15.2 mm Lead Span; Supplier 1: Digi-Key; Supplier Part Number 1: TL2575HV-15IKTTRG3-ND; Supplier 2: Newark; Supplier Part Number 2: 62M0609; Supplier 3: Mouser; Supplier Part Number 3: 595-T2575HV15IKTTRG3; Eco-Plan: Green (RoHS & no Sb/Br); Regulated Outputs(#): 1; Topology: Buck; Vout(Max)(V): 15; Vout(Min)(V): 15; Mounting Technology: Surface Mount; Code_JEDEC: TO-263-AB; ComponentLink1Description: Datasheet; ComponentLink1URL: http://www.ti.com/general/docs/lit/getliterature.tsp?genericPartNumber=TL2575HV-15&fileType=pdf; ComponentLink2Description: URL Link1; ComponentLink2URL: Samples URL:http://www.ti.com/product/tl2575hv-15#samples
footprint KTT5_N (D2-PAK, 6-Leads, Body 8.9x10.2mm, Pitch 1.7mm, Lead Span 15.2mm, IPC Medium Density)
footprint KTT5_L (D2-PAK, 6-Leads, Body 8.9x10.2mm, Pitch 1.7mm, Lead Span 15.2mm, IPC High Density)
footprint KTT5_M (D2-PAK, 6-Leads, Body 8.9x10.2mm, Pitch 1.7mm, Lead Span 15.2mm, IPC Low Density)
pins: 1 VIN (power), 2 OUT (power), 3 GND (power), 4 FB (in), 5 ~{ON}/OFF (in), 6 GND (power)

## TL2575HV-15IN
designator U?
Buck Step Down Regulator with 4.75 to 60 V Input and 15 V Output, -40 to 125 degC, 16-Pin PDIP (N), Pb-Free (RoHS); PartNumber: TL2575HV-15IN; Manufacturer: Texas Instruments; Duty Cycle(Max)(%): 98; Iout(Max)(A): 1; Iq(Typ)(mA): 5; Preset Vout(V): 15; Rating: Catalog; SubFamily: Step-Down Regulator; Switch Current Limit(Typ)(A): 2.8; Vin(Max)(V): 60; Vin(Min)(V): 4.75; DatasheetVersion: SLVS638B; PackageVersion: revE, Dec-2002; PackageReference: N16; PackageDescription: 16-Pin Plastic Dual-In-Line Package, Row Spacing 7.62 mm, Pitch 2.54 mm; Supplier 1: Digi-Key; Supplier Part Number 1: 296-21837-5-ND; Supplier 2: Newark; Supplier Part Number 2: 27M1044; Supplier 3: Mouser; Supplier Part Number 3: 595-TL2575HV-15IN; Eco-Plan: Pb-Free (RoHS); Regulated Outputs(#): 1; Topology: Buck; Vout(Max)(V): 15; Vout(Min)(V): 15; Mounting Technology: Through Hole; Code_JEDEC: MS-001*; ComponentLink1Description: Datasheet; ComponentLink1URL: http://www.ti.com/general/docs/lit/getliterature.tsp?genericPartNumber=TL2575HV-15&fileType=pdf; ComponentLink2Description: URL Link1; ComponentLink2URL: Samples URL:http://www.ti.com/product/tl2575hv-15#samples
footprint N16 (DIP, 16-Leads, Row Spacing 7.62mm, Pitch 2.54mm, Body 19.3x6.4mm)
part A pins: 3 OUT (power), 5 GND (power), 7 FB (in), 9 ~{ON}/OFF (in), 12 GND (power), 13 GND (power), 16 VIN (power)
part B pins: 1 NC, 2 NC, 4 NC, 6 NC, 8 NC, 10 NC, 11 NC, 14 NC, 15 NC

## TL2575HV-15INE4
designator U?
Buck Step Down Regulator with 4.75 to 60 V Input and 15 V Output, -40 to 125 degC, 16-Pin PDIP (N), Pb-Free (RoHS); PartNumber: TL2575HV-15INE4; Manufacturer: Texas Instruments; Duty Cycle(Max)(%): 98; Iout(Max)(A): 1; Iq(Typ)(mA): 5; Preset Vout(V): 15; Rating: Catalog; SubFamily: Step-Down Regulator; Switch Current Limit(Typ)(A): 2.8; Vin(Max)(V): 60; Vin(Min)(V): 4.75; DatasheetVersion: SLVS638B; PackageVersion: revE, Dec-2002; PackageReference: N16; PackageDescription: 16-Pin Plastic Dual-In-Line Package, Row Spacing 7.62 mm, Pitch 2.54 mm; Supplier 1: Digi-Key; Supplier Part Number 1: TL2575HV-15INE4-ND; Supplier 2: Newark; Supplier Part Number 2: 27M1045; Supplier 3: Mouser; Supplier Part Number 3: 595-TL2575HV-15INE4; Eco-Plan: Pb-Free (RoHS); Regulated Outputs(#): 1; Topology: Buck; Vout(Max)(V): 15; Vout(Min)(V): 15; Mounting Technology: Through Hole; Code_JEDEC: MS-001*; ComponentLink1Description: Datasheet; ComponentLink1URL: http://www.ti.com/general/docs/lit/getliterature.tsp?genericPartNumber=TL2575HV-15&fileType=pdf; ComponentLink2Description: URL Link1; ComponentLink2URL: Samples URL:http://www.ti.com/product/tps54611#samples
footprint N16 (DIP, 16-Leads, Row Spacing 7.62mm, Pitch 2.54mm, Body 19.3x6.4mm)
part A pins: 3 OUT (power), 5 GND (power), 7 FB (in), 9 ~{ON}/OFF (in), 12 GND (power), 13 GND (power), 16 VIN (power)
part B pins: 1 NC, 2 NC, 4 NC, 6 NC, 8 NC, 10 NC, 11 NC, 14 NC, 15 NC

## TL2575HV-33IKTTR
designator U?
Buck Step Down Regulator with 4.75 to 60 V Input and 3.3 V Output, -40 to 125 degC, 5-Pin DDPAK/TO-263 (KTT), Green (RoHS & no Sb/Br); PartNumber: TL2575HV-33IKTTR; Manufacturer: Texas Instruments; Duty Cycle(Max)(%): 98; Iout(Max)(A): 1; Iq(Typ)(mA): 5; Preset Vout(V): 3.3; Rating: Catalog; SubFamily: Step-Down Regulator; Switch Current Limit(Typ)(A): 2.8; Vin(Max)(V): 60; Vin(Min)(V): 4.75; DatasheetVersion: SLVS638B; PackageVersion: revF, Jul-2011; PackageReference: KTT5; PackageDescription: 6-Pin Plastic Flange-Mount Package 1.7 mm Pitch, 15.2 mm Lead Span; Supplier 1: Digi-Key; Supplier Part Number 1: 296-21838-2-ND; Supplier 2: Digi-Key; Supplier Part Number 2: 296-21838-1-ND; Supplier 3: Digi-Key; Supplier Part Number 3: 296-21838-6-ND; Supplier 4: Newark; Supplier Part Number 4: 27M1046; Supplier 5: Mouser; Supplier Part Number 5: 595-TL2575HV-33IKTTR; Eco-Plan: Green (RoHS & no Sb/Br); Regulated Outputs(#): 1; Topology: Buck; Vout(Max)(V): 3.3; Vout(Min)(V): 3.3; Mounting Technology: Surface Mount; Code_JEDEC: TO-263-AB; ComponentLink1Description: Datasheet; ComponentLink1URL: http://www.ti.com/general/docs/lit/getliterature.tsp?genericPartNumber=TL2575HV-33&fileType=pdf; ComponentLink2Description: URL Link1; ComponentLink2URL: Samples URL:http://www.ti.com/product/tl2575hv-33#samples
footprint KTT5_N (D2-PAK, 6-Leads, Body 8.9x10.2mm, Pitch 1.7mm, Lead Span 15.2mm, IPC Medium Density)
footprint KTT5_L (D2-PAK, 6-Leads, Body 8.9x10.2mm, Pitch 1.7mm, Lead Span 15.2mm, IPC High Density)
footprint KTT5_M (D2-PAK, 6-Leads, Body 8.9x10.2mm, Pitch 1.7mm, Lead Span 15.2mm, IPC Low Density)
pins: 1 VIN (power), 2 OUT (power), 3 GND (power), 4 FB (in), 5 ~{ON}/OFF (in), 6 GND (power)

## TL2575HV-33IKTTRG3
designator U?
Buck Step Down Regulator with 4.75 to 60 V Input and 3.3 V Output, -40 to 125 degC, 5-Pin DDPAK/TO-263 (KTT), Green (RoHS & no Sb/Br); PartNumber: TL2575HV-33IKTTRG3; Manufacturer: Texas Instruments; Duty Cycle(Max)(%): 98; Iout(Max)(A): 1; Iq(Typ)(mA): 5; Preset Vout(V): 3.3; Rating: Catalog; SubFamily: Step-Down Regulator; Switch Current Limit(Typ)(A): 2.8; Vin(Max)(V): 60; Vin(Min)(V): 4.75; DatasheetVersion: SLVS638B; PackageVersion: revF, Jul-2011; PackageReference: KTT5; PackageDescription: 6-Pin Plastic Flange-Mount Package 1.7 mm Pitch, 15.2 mm Lead Span; Supplier 1: Digi-Key; Supplier Part Number 1: TL2575HV-33IKTTRG3-ND; Supplier 2: Newark; Supplier Part Number 2: 62M0610; Supplier 3: Mouser; Supplier Part Number 3: 595-T2575HV33IKTTRG3; Eco-Plan: Green (RoHS & no Sb/Br); Regulated Outputs(#): 1; Topology: Buck; Vout(Max)(V): 3.3; Vout(Min)(V): 3.3; Mounting Technology: Surface Mount; Code_JEDEC: TO-263-AB; ComponentLink1Description: Datasheet; ComponentLink1URL: http://www.ti.com/general/docs/lit/getliterature.tsp?genericPartNumber=TL2575HV-33&fileType=pdf; ComponentLink2Description: URL Link1; ComponentLink2URL: Samples URL:http://www.ti.com/product/tl2575hv-33#samples
footprint KTT5_N (D2-PAK, 6-Leads, Body 8.9x10.2mm, Pitch 1.7mm, Lead Span 15.2mm, IPC Medium Density)
footprint KTT5_L (D2-PAK, 6-Leads, Body 8.9x10.2mm, Pitch 1.7mm, Lead Span 15.2mm, IPC High Density)
footprint KTT5_M (D2-PAK, 6-Leads, Body 8.9x10.2mm, Pitch 1.7mm, Lead Span 15.2mm, IPC Low Density)
pins: 1 VIN (power), 2 OUT (power), 3 GND (power), 4 FB (in), 5 ~{ON}/OFF (in), 6 GND (power)

## TL2575HV-33IN
designator U?
Buck Step Down Regulator with 4.75 to 60 V Input and 3.3 V Output, -40 to 125 degC, 16-Pin PDIP (N), Pb-Free (RoHS); PartNumber: TL2575HV-33IN; Manufacturer: Texas Instruments; Duty Cycle(Max)(%): 98; Iout(Max)(A): 1; Iq(Typ)(mA): 5; Preset Vout(V): 3.3; Rating: Catalog; SubFamily: Step-Down Regulator; Switch Current Limit(Typ)(A): 2.8; Vin(Max)(V): 60; Vin(Min)(V): 4.75; DatasheetVersion: SLVS638B; PackageVersion: revE, Dec-2002; PackageReference: N16; PackageDescription: 16-Pin Plastic Dual-In-Line Package, Row Spacing 7.62 mm, Pitch 2.54 mm; Supplier 1: Digi-Key; Supplier Part Number 1: 296-21840-5-ND; Supplier 2: Newark; Supplier Part Number 2: 27M1048; Supplier 3: Mouser; Supplier Part Number 3: 595-TL2575HV-33IN; Eco-Plan: Pb-Free (RoHS); Regulated Outputs(#): 1; Topology: Buck; Vout(Max)(V): 3.3; Vout(Min)(V): 3.3; Mounting Technology: Through Hole; Code_JEDEC: MS-001*; ComponentLink1Description: Datasheet; ComponentLink1URL: http://www.ti.com/general/docs/lit/getliterature.tsp?genericPartNumber=TL2575HV-33&fileType=pdf; ComponentLink2Description: URL Link1; ComponentLink2URL: Samples URL:http://www.ti.com/product/tl2575hv-33#samples
footprint N16 (DIP, 16-Leads, Row Spacing 7.62mm, Pitch 2.54mm, Body 19.3x6.4mm)
part A pins: 3 OUT (power), 5 GND (power), 7 FB, 9 ~{ON}/OFF (in), 12 GND (power), 13 GND (power), 16 VIN (power)
part B pins: 1 NC, 2 NC, 4 NC, 6 NC, 8 NC, 10 NC, 11 NC, 14 NC, 15 NC

## TL2575HV-33INE4
designator U?
Buck Step Down Regulator with 4.75 to 60 V Input and 3.3 V Output, -40 to 125 degC, 16-Pin PDIP (N), Pb-Free (RoHS); PartNumber: TL2575HV-33INE4; Manufacturer: Texas Instruments; Duty Cycle(Max)(%): 98; Iout(Max)(A): 1; Iq(Typ)(mA): 5; Preset Vout(V): 3.3; Rating: Catalog; SubFamily: Step-Down Regulator; Switch Current Limit(Typ)(A): 2.8; Synchronous Rectification: False; Vin(Max)(V): 60; Vin(Min)(V): 4.75; DatasheetVersion: SLVS638B; PackageVersion: revE, Dec-2002; PackageReference: N16; PackageDescription: 16-Pin Plastic Dual-In-Line Package, Row Spacing 7.62 mm, Pitch 2.54 mm; Supplier 1: Digi-Key; Supplier Part Number 1: TL2575HV-33INE4-ND; Supplier 2: Newark; Supplier Part Number 2: 27M1049; Supplier 3: Mouser; Supplier Part Number 3: 595-TL2575HV-33INE4; Eco-Plan: Pb-Free (RoHS); Regulated Outputs(#): 1; Topology: Buck; Vout(Max)(V): 3.3; Vout(Min)(V): 3.3; Mounting Technology: Through Hole; Code_JEDEC: MS-001*; ComponentLink1Description: Datasheet; ComponentLink1URL: http://www.ti.com/general/docs/lit/getliterature.tsp?genericPartNumber=TL2575HV-33&fileType=pdf; ComponentLink2Description: URL Link1; ComponentLink2URL: Samples URL:http://www.ti.com/product/tl2575hv-33#samples
footprint N16 (DIP, 16-Leads, Row Spacing 7.62mm, Pitch 2.54mm, Body 19.3x6.4mm)
part A pins: 3 OUT (power), 5 GND (power), 7 FB, 9 ~{ON}/OFF (in), 12 GND (power), 13 GND (power), 16 VIN (power)
part B pins: 1 NC, 2 NC, 4 NC, 6 NC, 8 NC, 10 NC, 11 NC, 14 NC, 15 NC

## TL2575HV-ADJIKTTR
designator U?
Buck Step Down Regulator with 4.75 to 60 V Input and 1.23 to 57 V Output, -40 to 125 degC, 5-Pin DDPAK/TO-263 (KTT), Green (RoHS & no Sb/Br); PartNumber: TL2575HV-ADJIKTTR; Manufacturer: Texas Instruments; Duty Cycle(Max)(%): 98; Iout(Max)(A): 1; Iq(Typ)(mA): 5; Rating: Catalog; SubFamily: Step-Down Regulator; Switch Current Limit(Typ)(A): 2.8; Vin(Max)(V): 60; Vin(Min)(V): 4.75; Vout(Max)(V): 57; Vout(Min)(V): 1.23; DatasheetVersion: SLVS638B; PackageVersion: revF, Jul-2011; PackageReference: KTT5; PackageDescription: 6-Pin Plastic Flange-Mount Package 1.7 mm Pitch, 15.2 mm Lead Span; Supplier 1: Digi-Key; Supplier Part Number 1: 296-21841-2-ND; Supplier 2: Digi-Key; Supplier Part Number 2: 296-21841-1-ND; Supplier 3: Digi-Key; Supplier Part Number 3: 296-21841-6-ND; Supplier 4: Farnell; Supplier Part Number 4: 1755273; Supplier 5: Newark; Supplier Part Number 5: 27M1034; Supplier 6: Mouser; Supplier Part Number 6: 595-TL2575HVADJIKTTR; Eco-Plan: Green (RoHS & no Sb/Br); Regulated Outputs(#): 1; Topology: Buck; Mounting Technology: Surface Mount; Code_JEDEC: TO-263-AB; ComponentLink1Description: Datasheet; ComponentLink1URL: http://www.ti.com/general/docs/lit/getliterature.tsp?genericPartNumber=TL2575HV-ADJ&fileType=pdf; ComponentLink2Description: URL Link1; ComponentLink2URL: Samples URL:http://www.ti.com/product/tl2575hv-adj#samples
footprint KTT5_N (D2-PAK, 6-Leads, Body 8.9x10.2mm, Pitch 1.7mm, Lead Span 15.2mm, IPC Medium Density)
footprint KTT5_L (D2-PAK, 6-Leads, Body 8.9x10.2mm, Pitch 1.7mm, Lead Span 15.2mm, IPC High Density)
footprint KTT5_M (D2-PAK, 6-Leads, Body 8.9x10.2mm, Pitch 1.7mm, Lead Span 15.2mm, IPC Low Density)
pins: 1 VIN (power), 2 OUT (power), 3 GND (power), 4 FB (in), 5 ~{ON}/OFF (in), 6 GND (power)

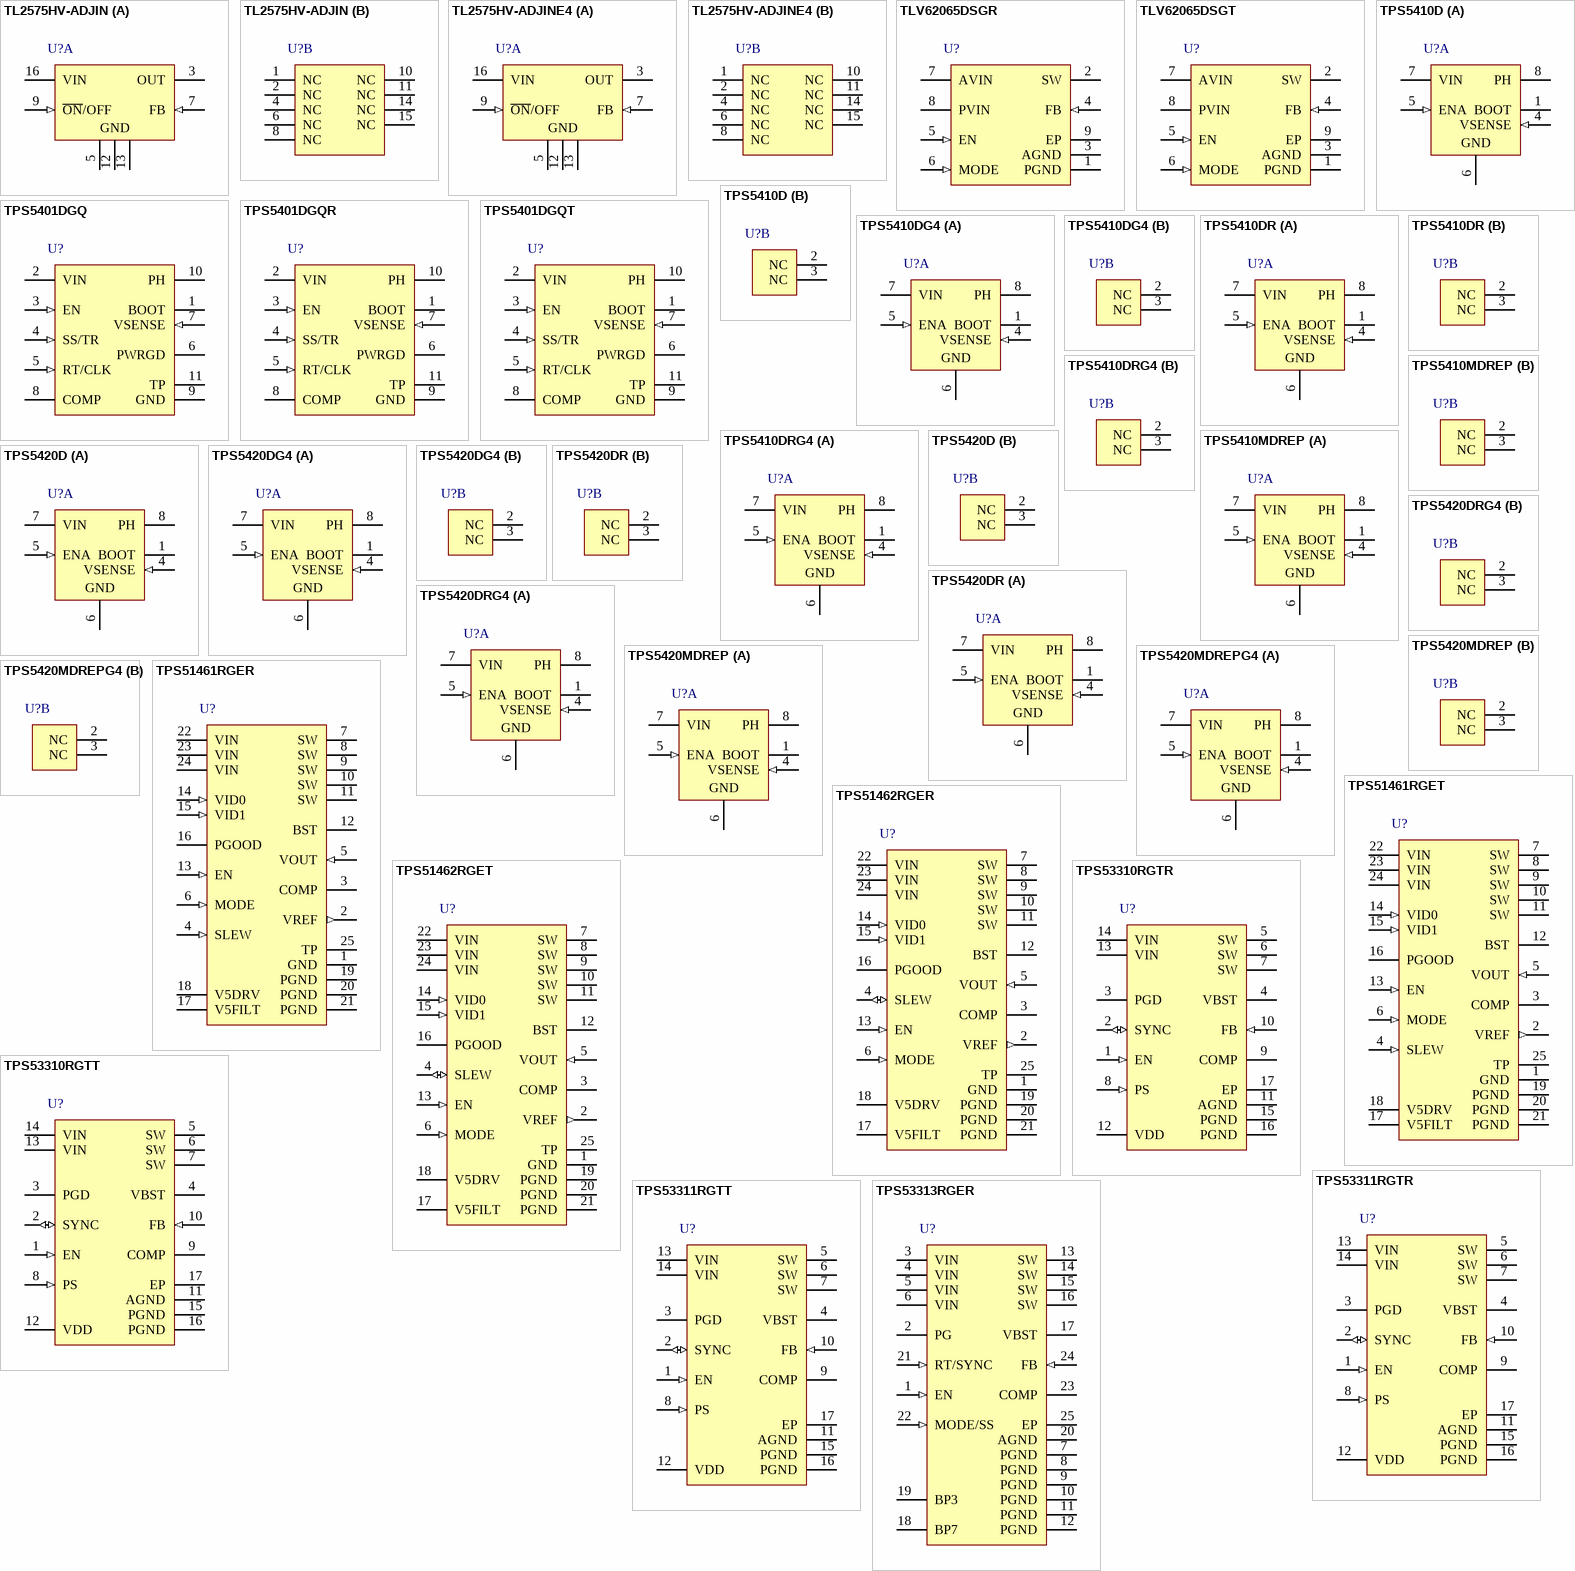
[diagram p2: symbols TL2575HV-ADJIN to TPS53313RGER]

## TL2575HV-ADJIN
designator U?
Buck Step Down Regulator with 4.75 to 60 V Input and 1.23 to 57 V Output, -40 to 125 degC, 16-Pin PDIP (N), Pb-Free (RoHS); PartNumber: TL2575HV-ADJIN; Manufacturer: Texas Instruments; Duty Cycle(Max)(%): 98; Iout(Max)(A): 1; Iq(Typ)(mA): 5; Rating: Catalog; SubFamily: Step-Down Regulator; Switch Current Limit(Typ)(A): 2.8; Vin(Max)(V): 60; Vin(Min)(V): 4.75; Vout(Max)(V): 57; Vout(Min)(V): 1.23; DatasheetVersion: SLVS638B; PackageVersion: revE, Dec-2002; PackageReference: N16; PackageDescription: 16-Pin Plastic Dual-In-Line Package, Row Spacing 7.62 mm, Pitch 2.54 mm; Supplier 1: Digi-Key; Supplier Part Number 1: 296-21843-5-ND; Supplier 2: Newark; Supplier Part Number 2: 27M1036; Supplier 3: Mouser; Supplier Part Number 3: 595-TL2575HV-ADJIN; Eco-Plan: Pb-Free (RoHS); Regulated Outputs(#): 1; Topology: Buck; Mounting Technology: Through Hole; Code_JEDEC: MS-001*; ComponentLink1Description: Datasheet; ComponentLink1URL: http://www.ti.com/general/docs/lit/getliterature.tsp?genericPartNumber=TL2575HV-ADJ&fileType=pdf; ComponentLink2Description: URL Link1; ComponentLink2URL: Samples URL:http://www.ti.com/product/tl2575hv-adj#samples
footprint N16 (DIP, 16-Leads, Row Spacing 7.62mm, Pitch 2.54mm, Body 19.3x6.4mm)
part A pins: 3 OUT (power), 5 GND (power), 7 FB (in), 9 ~{ON}/OFF (in), 12 GND (power), 13 GND (power), 16 VIN (power)
part B pins: 1 NC, 2 NC, 4 NC, 6 NC, 8 NC, 10 NC, 11 NC, 14 NC, 15 NC

## TL2575HV-ADJINE4
designator U?
Buck Step Down Regulator with 4.75 to 60 V Input and 1.23 to 57 V Output, -40 to 125 degC, 16-Pin PDIP (N), Pb-Free (RoHS); PartNumber: TL2575HV-ADJINE4; Manufacturer: Texas Instruments; Duty Cycle(Max)(%): 98; Iout(Max)(A): 1; Iq(Typ)(mA): 5; Rating: Catalog; SubFamily: Step-Down Regulator; Switch Current Limit(Typ)(A): 2.8; Synchronous Rectification: False; Vin(Max)(V): 60; Vin(Min)(V): 4.75; Vout(Max)(V): 57; Vout(Min)(V): 1.23; DatasheetVersion: SLVS638B; PackageVersion: revE, Dec-2002; PackageReference: N16; PackageDescription: 16-Pin Plastic Dual-In-Line Package, Row Spacing 7.62 mm, Pitch 2.54 mm; Supplier 1: Digi-Key; Supplier Part Number 1: TL2575HV-ADJINE4-ND; Supplier 2: Newark; Supplier Part Number 2: 27M1037; Supplier 3: Mouser; Supplier Part Number 3: 595-TL2575HV-ADJINE4; Eco-Plan: Pb-Free (RoHS); Regulated Outputs(#): 1; Topology: Buck; Mounting Technology: Through Hole; Code_JEDEC: MS-001*; ComponentLink1Description: Datasheet; ComponentLink1URL: http://www.ti.com/general/docs/lit/getliterature.tsp?genericPartNumber=TL2575HV-ADJ&fileType=pdf; ComponentLink2Description: URL Link1; ComponentLink2URL: Samples URL:http://www.ti.com/product/tl2575hv-adj#samples
footprint N16 (DIP, 16-Leads, Row Spacing 7.62mm, Pitch 2.54mm, Body 19.3x6.4mm)
part A pins: 3 OUT (power), 5 GND (power), 7 FB (in), 9 ~{ON}/OFF (in), 12 GND (power), 13 GND (power), 16 VIN (power)
part B pins: 1 NC, 2 NC, 4 NC, 6 NC, 8 NC, 10 NC, 11 NC, 14 NC, 15 NC

## TLV62065DSGR
designator U?
Buck Step Down Regulator with 2.9 to 5.5 V Input and 0.8 to 5.5 V Output, -40 to 85 degC, 8-Pin WSON (DSG), Green (RoHS & no Sb/Br); PartNumber: TLV62065DSGR; Manufacturer: Texas Instruments; Duty Cycle(Max)(%): 100; Iout(Max)(A): 2; Iq(Typ)(mA): 18; Rating: Catalog; Regulated Outputs(#): 1; SubFamily: Step-Down Regulator; Switch Current Limit(Typ)(A): 2.75; Vin(Max)(V): 5.5; Vin(Min)(V): 2.9; Vout(Min)(V): 0.8; DatasheetVersion: SLVSAC4A; PackageVersion: revB, Oct-2010; PackageReference: DSG8-1600X900TP; PackageDescription: 8-Pin Plastic Small Outline No-Lead, 2 x 2 x 0.8 mm Body, 0.5 mm Pitch, Exposed Pad; Supplier 1: Digi-Key; Supplier Part Number 1: TLV62065DSGR-ND; Supplier 2: Newark; Supplier Part Number 2: 24T4768; Supplier 3: Mouser; Supplier Part Number 3: 595-TLV62065DSGR; Eco-Plan: Green (RoHS & no Sb/Br); Topology: Buck; Vout(Max)(V): 5.5; Mounting Technology: Surface Mount; Code_JEDEC: MO-229; ComponentLink1Description: Datasheet; ComponentLink1URL: http://www.ti.com/general/docs/lit/getliterature.tsp?genericPartNumber=TLV62065&fileType=pdf; ComponentLink2Description: URL Link1; ComponentLink2URL: Samples URL:http://www.ti.com/product/tlv62065#samples
footprint DSG8-1600X900TP (SON, 8-Leads, Body 2x2mm, Pitch 0.5mm, Thermal Pad 1.6x0.9mm, TI Recommended)
pins: 1 PGND (power) "GND supply pin for the output stage.", 2 SW (power) "This is the switch pin and is connected to the internal MOSFET switches. Connect the external inductor between this terminal and the output capacitor.", 3 AGND (power) "Analog GND supply pin for the control circuit.", 4 FB (in) "Feedback pin for the internal regulation loop. Connect the external resistor divider to this pin. In case of fixed output voltage option, connect this pin directly to the output capacitor", 5 EN (in) "This is the enable pin of the device. Pulling this pin to low forces the device into shutdown mode. Pulling this pin to high enables the device. This pin must be terminated", 6 MODE (in) "MODE pin = high forces the device to operate in fixed frequency PWM mode. MODE pin = low enables the Power Save Mode with automatic transition from PFM mode to fixed frequency PWM mode. This pin must be terminated.", 7 AVIN (power) "Analog VIN power supply for the control circuit. Need to be connected to PVIN and input capacitor.", 8 PVIN (power) "VIN power supply pin for the output stage.", 9 EP (power) "For good thermal performance, this PAD must be soldered to the land pattern on the pcb. This PAD should be used as device GND."